# Altium footprint library SL_Modules.PcbLib: 1 footprints
Each footprint in its own frame and in the unit in brackets; x right, y up, seen from the top. Pads: shape width x height; smd on the part's side, far side on the other; paste and mask are expansions set on the pad; w line width, h text height; cw(c..) or ccw(c..) is an arc to the next point about the centre after c.
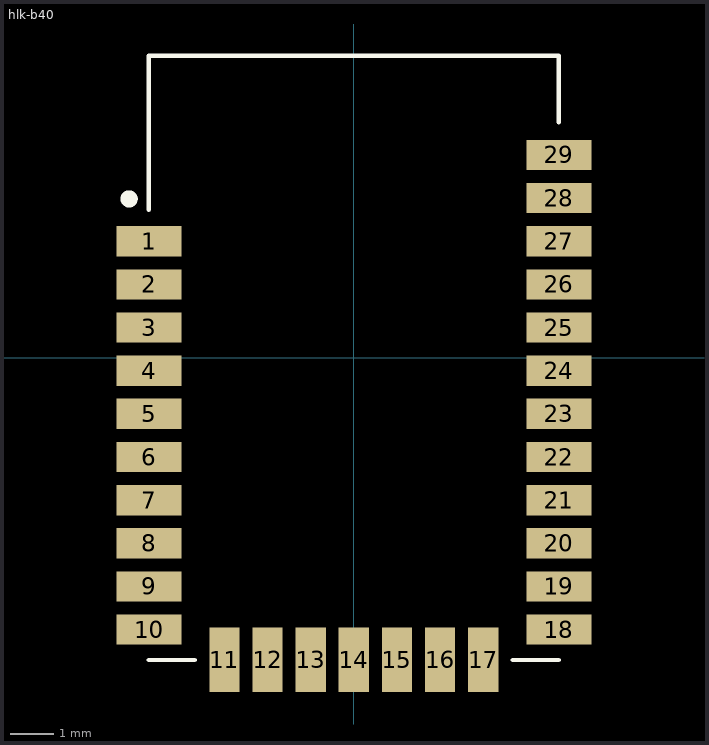
[diagram p0: the footprint, top view; thin cyan lines are the x and y axes]

## hlk-b40 [mm]
pads (29):
  rect 1.5x0.7 smd mask+0: 1(-4.746,2.702) 2(-4.746,1.702) 3(-4.746,0.702) 4(-4.746,-0.298) 5(-4.746,-1.298) 6(-4.746,-2.298) 7(-4.746,-3.298) 8(-4.746,-4.298) 9(-4.746,-5.298) 10(-4.746,-6.298) 18(4.754,-6.298) 19(4.754,-5.298) 20(4.754,-4.298) 21(4.754,-3.298) 22(4.754,-2.298) 23(4.754,-1.298) 24(4.754,-0.298) 25(4.754,0.702) 26(4.754,1.702) 27(4.754,2.702) 28(4.754,3.702) 29(4.754,4.702)
  rect 0.7x1.5 smd mask+0: 11(-3,-6.998) 12(-2,-6.998) 13(-1,-6.998) 14(0,-6.998) 15(1,-6.998) 16(2,-6.998) 17(3,-6.998)
Top Overlay:
  circle w0.2: c-5.207,3.683 r0.1
  lines w0.1: -4.75,-7 -4.75,-7.002 -3.683,-7.002 ; -4.75,3.429 -4.75,6.998 4.75,6.998 4.75,5.461 ; 3.683,-7.002 4.75,-7.002 4.75,-7
3D body "hlk-b40.step": height 2, standoff -0.02, extent -4.75,-7 4.75,6.979